# Altium schematic symbol library rs-485.SchLib: 10 symbols
Pins are listed as number, name and electrical type; pins without a type are passive.

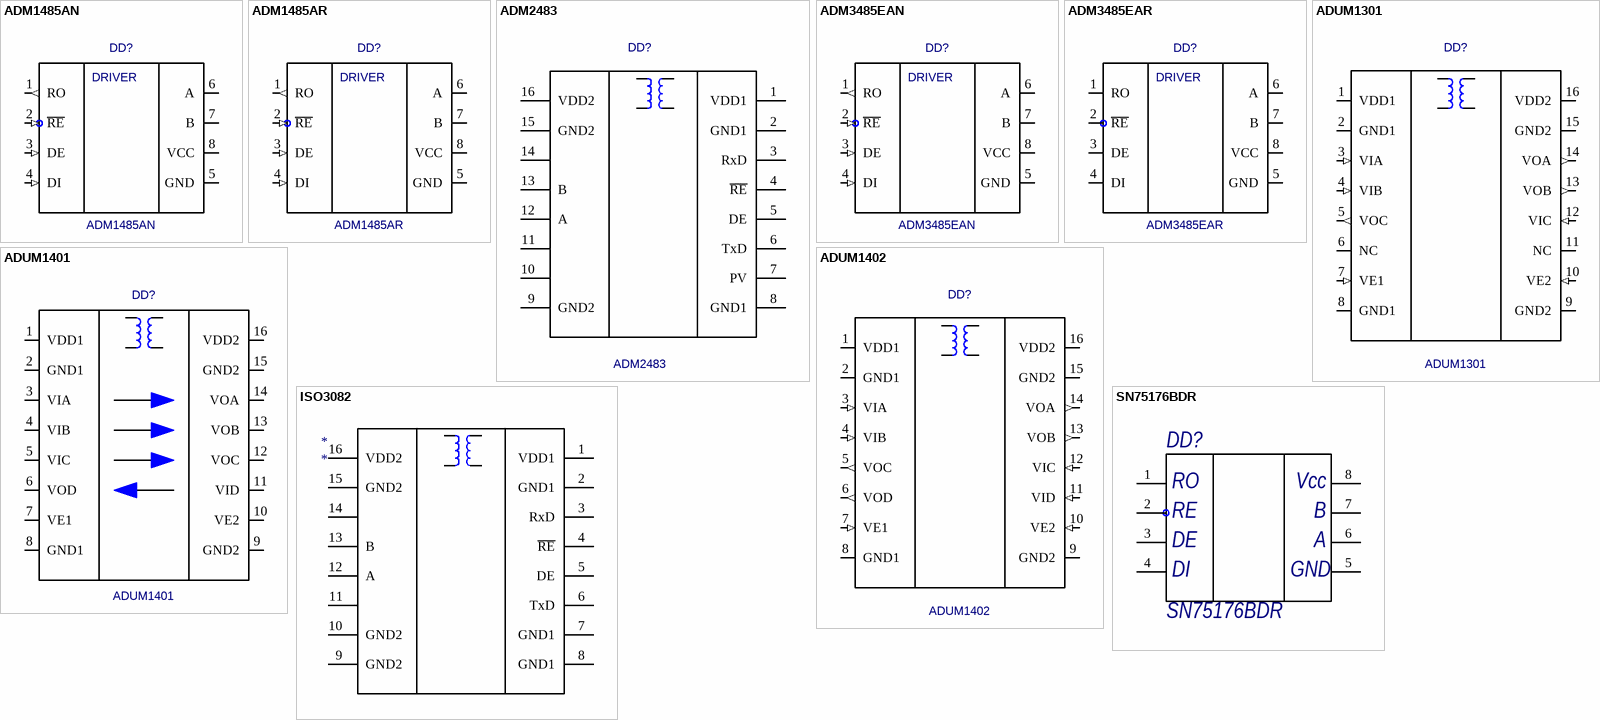
[diagram p0: symbols ADM1485AN to SN75176BDR]

## ADM1485AN
designator DD?
Value: *
footprint PDIP-8
pins: 1 RO (out), 2 ~{RE} (in), 3 DE (in), 4 DI (in), 5 GND (power), 6 A (io), 7 B (io), 8 VCC (power)
text: DRIVER

## ADM1485AR
designator DD?
Value: *
footprint SOIC-8
pins: 1 RO (out), 2 ~{RE} (in), 3 DE (in), 4 DI (in), 5 GND (power), 6 A (io), 7 B (io), 8 VCC (power)
text: DRIVER

## ADM2483
designator DD?
Value: *
footprint SOIC16 (RW-16)
pins: 1 VDD1, 2 GND1, 3 RxD, 4 ~{RE}, 5 DE, 6 TxD, 7 PV, 8 GND1, 9 GND2, 10, 11, 12 A, 13 B, 14, 15 GND2, 16 VDD2

## ADM3485EAN
designator DD?
Value: *
footprint PDIP-8
pins: 1 RO (out), 2 ~{RE} (in), 3 DE (in), 4 DI (in), 5 GND (power), 6 A (io), 7 B (io), 8 VCC (power)
text: DRIVER

## ADM3485EAR
designator DD?
Value: *
footprint SOIC-8
pins: 1 RO, 2 ~{RE}, 3 DE, 4 DI, 5 GND, 6 A, 7 B, 8 VCC
text: DRIVER

## ADUM1301
designator DD?
Value: *
footprint SOIC16 (RW-16)
pins: 1 VDD1 (power), 2 GND1 (power), 3 VIA (in), 4 VIB (in), 5 VOC (out), 6 NC, 7 VE1 (in), 8 GND1 (power), 9 GND2 (power), 10 VE2 (in), 11 NC, 12 VIC (in), 13 VOB (out), 14 VOA (out), 15 GND2 (power), 16 VDD2 (power)

## ADUM1401
designator DD?
Value: *
footprint SOIC16 (RW-16)
pins: 1 VDD1, 2 GND1, 3 VIA, 4 VIB, 5 VIC, 6 VOD, 7 VE1, 8 GND1, 9 GND2, 10 VE2, 11 VID, 12 VOC, 13 VOB, 14 VOA, 15 GND2, 16 VDD2

## ADUM1402
designator DD?
Value: *
footprint SOIC16 (RW-16)
pins: 1 VDD1 (power), 2 GND1 (power), 3 VIA (in), 4 VIB (in), 5 VOC (out), 6 VOD (out), 7 VE1 (in), 8 GND1 (power), 9 GND2 (power), 10 VE2 (in), 11 VID (in), 12 VIC (in), 13 VOB (out), 14 VOA (out), 15 GND2 (power), 16 VDD2 (power)

## ISO3082
designator *
footprint SOIC16 (RW-16)
pins: 1 VDD1, 2 GND1, 3 RxD, 4 ~{RE}, 5 DE, 6 TxD, 7 GND1, 8 GND1, 9 GND2, 10 GND2, 11, 12 A, 13 B, 14, 15 GND2, 16 VDD2

## SN75176BDR
designator DD?
footprint SOIC-8
pins: 1, 2, 3, 4, 5, 6, 7, 8
text: RO; Vcc; RE; B; DE; A; DI; GND